# Altium schematic symbol library microchip-adc.SchLib: 1 symbol
Pins are listed as number, name and electrical type; pins without a type are passive.

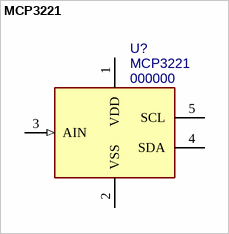
[diagram p0: symbol MCP3221]

## MCP3221
designator U?, comment 000000  value MCP3221
Low Power 12-Bit A/D Converter With I2C Interface; Package: SOT23-5; PN: 000000; ExtraInfo: *
footprint SOT23-5 (5-Lead Plastic Small Outline Transistor)
pins: 1 VDD (power), 2 VSS (power), 3 AIN (in), 4 SDA (oc), 5 SCL (oc)